# Altium footprint library resistance.PcbLib: 1 footprints
Each footprint in its own frame and in the unit in brackets; x right, y up, seen from the top. Pads: shape width x height; smd on the part's side, far side on the other; paste and mask are expansions set on the pad; w line width, h text height; cw(c..) or ccw(c..) is an arc to the next point about the centre after c.
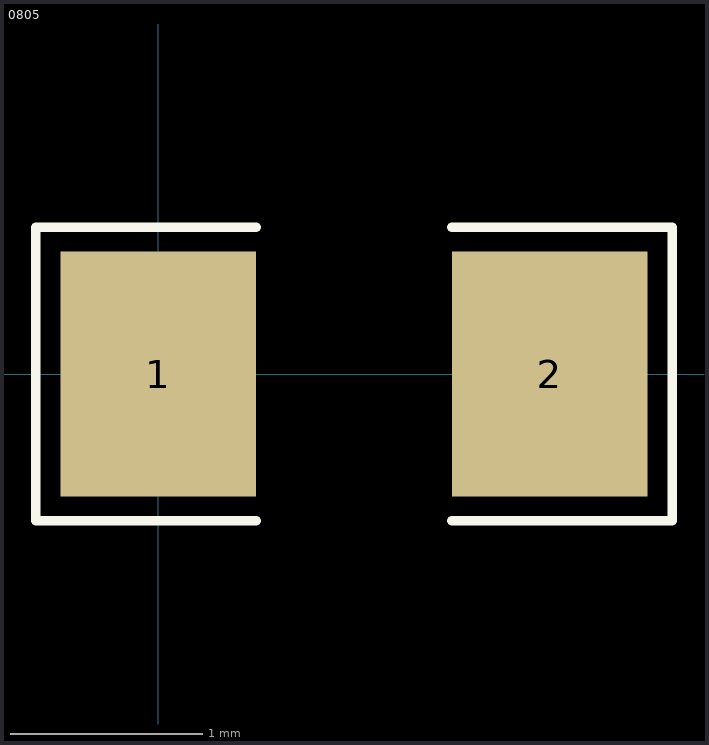
[diagram p0: the footprint, top view; thin cyan lines are the x and y axes]

## 0805 [mil]
pads (2):
  rect 40x50 smd: 1(0,0) 2(80,0)
Top Overlay:
  lines w2: 20,-30 -25,-30 -25,30 20,30 ; 60,-30 105,-30 105,30 60,30
3D body "resistance_cms.STEP": height 25, standoff 1.38, extent 0.63,-24.61 79.37,24.61